# EAGLE library part 648010117322 (library Wire_to_Board_Connectors_rev15d)
WR-WTB 1.50mm Male Horizontal Shrouded Header, 10 Pins=>Code : Con_WTB_1.50_PCB_THT_648010117322 <http://katalog.we-online.de/media/thumbs2/eican/thb_Con_WTB_1.50_PCB_THT_6480xx117322_pf2.jpg> Details see: http://katalog.we-online.de/en/em/648_0xx_117_322 Created 2014-06-06, Karrer Zheng 2014 (C) Würth Elektronik
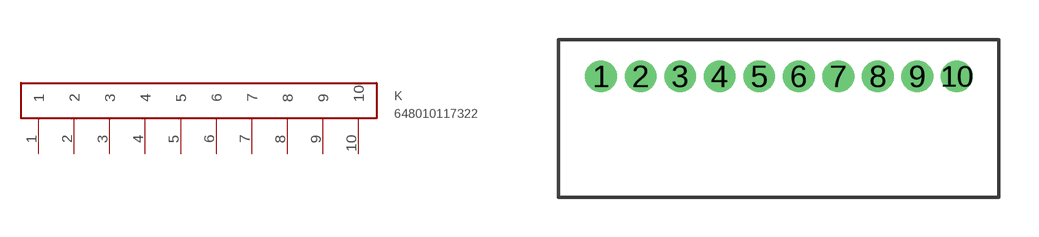
[diagram p80: symbol with the pads of 648010117322; footprint 648010117322]

Designator prefix K

## 648010117322  [648010117322]
1  1  pas
2  2  pas
3  3  pas
4  4  pas
5  5  pas
6  6  pas
7  7  pas
8  8  pas
9  9  pas
10  10  pas

## Footprint 648010117322 (pad centres in mm)
WR-WTB 1.50mm Male Horizontal Shrouded Header, 10 Pins
drill 0.7: 1 -0.75,0; 2 0.75,0; 3 2.25,0; 4 3.75,0; 5 5.25,0; 6 6.75,0; 7 8.25,0; 8 9.75,0; 9 11.25,0; 10 12.75,0